# EAGLE library part DS1621 (library _allyourbase)
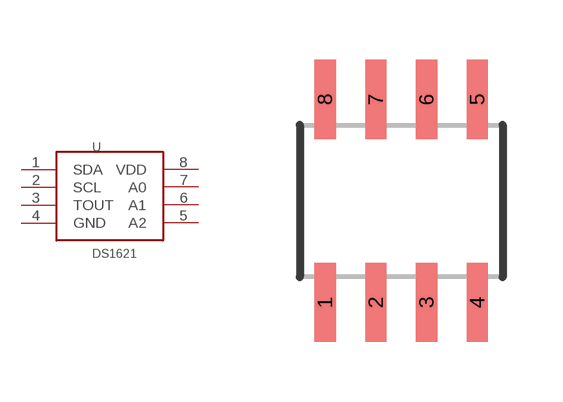
[diagram p2: symbol with the pads of 150MIL-SOIC-8; footprint 150MIL-SOIC-8]

Designator prefix -

## DS1621  [150MIL-SOIC-8]
1  SDA
2  SCL
3  TOUT
4  GND
5  A2
6  A1
7  A0
8  VDD

## Footprint 150MIL-SOIC-8 (pad centres in mm)
smd 0.533 x 1.981: 1 -1.905,-2.54; 2 -0.635,-2.54; 3 0.635,-2.54; 4 1.905,-2.54; 5 1.905,2.54; 6 0.635,2.54; 7 -0.635,2.54; 8 -1.905,2.54